# Altium footprint library CONN_HDR_2.00MM_ST_SMD.PcbLib: 20 footprints (part 1 of 2)
Each footprint in its own frame and in the unit in brackets; x right, y up, seen from the top. Pads: shape width x height; smd on the part's side, far side on the other; paste and mask are expansions set on the pad; w line width, h text height; cw(c..) or ccw(c..) is an arc to the next point about the centre after c.
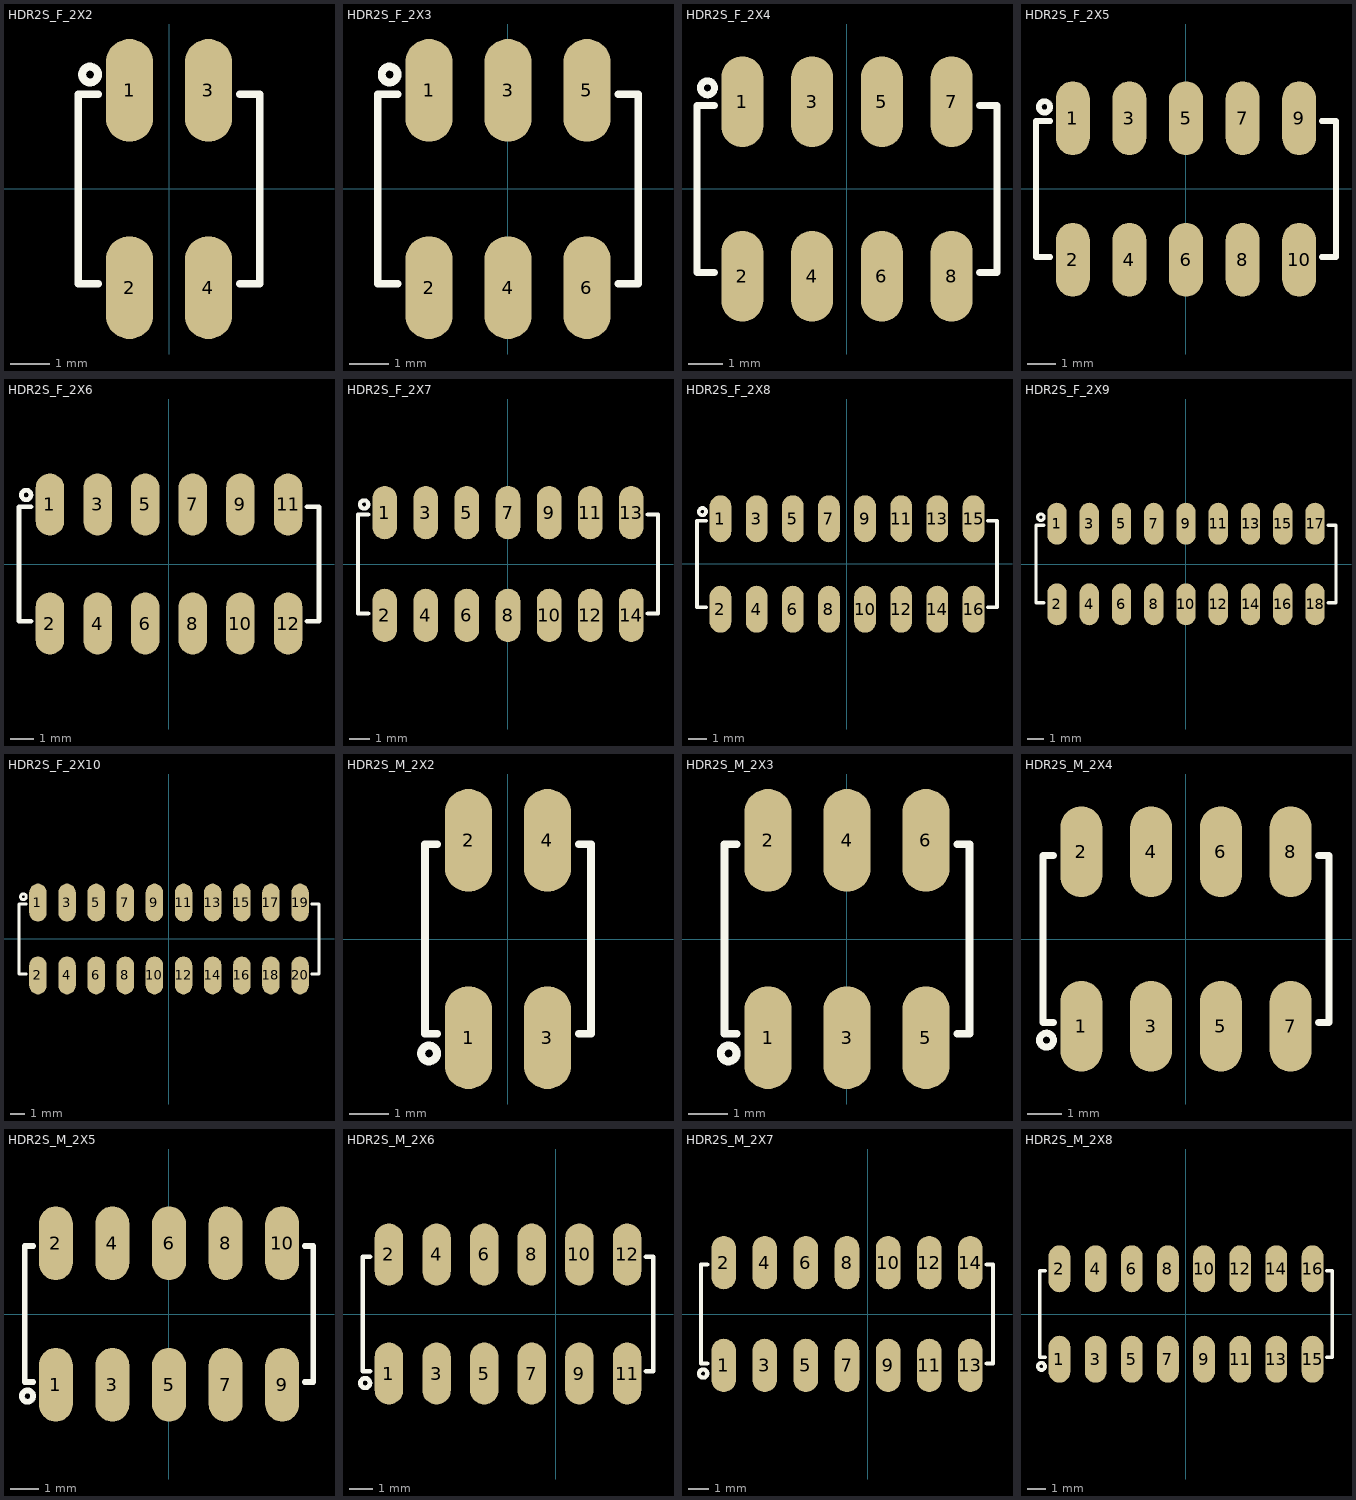
[diagram p0: the footprints below, top view; thin cyan lines are the x and y axes]

## HDR2S_F_2X2 [mm] "Header 2.0mm pitch"
pads (4):
  oval 1.2x2.6 smd mask+0.1: 1(-1,2.5) 2(-1,-2.5) 3(1,2.5) 4(1,-2.5)
Top Overlay:
  circle w0.2: c-2,2.9 r0.2
  lines w0.2: -1.8,-2.4 -2.3,-2.4 -2.3,2.4 -1.8,2.4 ; 1.8,-2.4 2.3,-2.4 2.3,2.4 1.8,2.4
3D body "female_header_a-bl200-dg-g04mp1.stp": height 4.6, standoff 0, extent -2.2,-3.35 2.2,3.351

## HDR2S_F_2X3 [mm] "Header 2.0mm pitch"
pads (6):
  oval 1.2x2.6 smd mask+0.1: 1(-2,2.5) 2(-2,-2.5) 3(0,2.5) 4(0,-2.5) 5(2,2.5) 6(2,-2.5)
Top Overlay:
  circle w0.2: c-3,2.9 r0.2
  lines w0.2: -2.8,-2.4 -3.3,-2.4 -3.3,2.4 -2.8,2.4 ; 2.8,-2.4 3.3,-2.4 3.3,2.4 2.8,2.4
3D body "female_header_a-bl200-dg-g06mp1.stp": height 4.6, standoff 0, extent -3.2,-3.35 3.2,3.351

## HDR2S_F_2X4 [mm] "Header 2.0mm pitch"
pads (8):
  oval 1.2x2.6 smd mask+0.1: 1(-3,2.5) 2(-3,-2.5) 3(-1,2.5) 4(-1,-2.5) 5(1,2.5) 6(1,-2.5) 7(3,2.5) 8(3,-2.5)
Top Overlay:
  circle w0.2: c-4,2.9 r0.2
  lines w0.2: -3.8,-2.4 -4.3,-2.4 -4.3,2.4 -3.8,2.4 ; 3.8,-2.4 4.3,-2.4 4.3,2.4 3.8,2.4
3D body "female_header_a-bl200-dg-g08mp1.stp": height 4.6, standoff 0, extent -4.2,-3.35 4.2,3.351

## HDR2S_F_2X5 [mm] "Header 2.0mm pitch"
height 1.2
pads (10):
  oval 1.2x2.6 smd mask+0.1: 1(-4,2.5) 2(-4,-2.5) 3(-2,2.5) 4(-2,-2.5) 5(0,2.5) 6(0,-2.5) 7(2,2.5) 8(2,-2.5) 9(4,2.5) 10(4,-2.5)
Top Overlay:
  circle w0.2: c-5,2.9 r0.2
  lines w0.2: -4.8,-2.4 -5.3,-2.4 -5.3,2.4 -4.8,2.4 ; 4.8,-2.4 5.3,-2.4 5.3,2.4 4.8,2.4
3D body "female_header_a-bl200-dg-g04mp1.stp": height 4.6, standoff 0, extent -5.2,-3.35 -0.8,3.351
3D body "female_header_a-bl200-dg-g06mp1.stp": height 4.6, standoff 0, extent -1.2,-3.35 5.2,3.351

## HDR2S_F_2X6 [mm] "Header 2.0mm pitch"
height 1.2
pads (12):
  oval 1.2x2.6 smd mask+0.1: 1(-5,2.5) 2(-5,-2.5) 3(-3,2.5) 4(-3,-2.5) 5(-1,2.5) 6(-1,-2.5) 7(1,2.5) 8(1,-2.5) 9(3,2.5) 10(3,-2.5) 11(5,2.5) 12(5,-2.5)
Top Overlay:
  circle w0.2: c-6,2.9 r0.2
  lines w0.2: -5.8,-2.4 -6.3,-2.4 -6.3,2.4 -5.8,2.4 ; 5.8,-2.4 6.3,-2.4 6.3,2.4 5.8,2.4
3D body "female_header_a-bl200-dg-g08mp1.stp": height 4.6, standoff 0, extent -6.2,-3.35 2.2,3.351
3D body "female_header_a-bl200-dg-g04mp1.stp": height 4.6, standoff 0, extent 1.8,-3.35 6.2,3.351

## HDR2S_F_2X7 [mm] "Header 2.0mm pitch"
height 1.2
pads (14):
  oval 1.2x2.6 smd mask+0.1: 1(-6,2.5) 2(-6,-2.5) 3(-4,2.5) 4(-4,-2.5) 5(-2,2.5) 6(-2,-2.5) 7(0,2.5) 8(0,-2.5) 9(2,2.5) 10(2,-2.5) 11(4,2.5) 12(4,-2.5) 13(6,2.5) 14(6,-2.5)
Top Overlay:
  circle w0.2: c-7,2.9 r0.2
  lines w0.2: -6.8,-2.4 -7.3,-2.4 -7.3,2.4 -6.8,2.4 ; 6.8,-2.4 7.3,-2.4 7.3,2.4 6.8,2.4
3D body "female_header_a-bl200-dg-g06mp1.stp": height 4.6, standoff 0, extent 0.8,-3.35 7.2,3.351
3D body "female_header_a-bl200-dg-g08mp1.stp": height 4.6, standoff 0, extent -7.2,-3.35 1.2,3.351

## HDR2S_F_2X8 [mm] "Header 2.0mm pitch"
height 1.2
pads (16):
  oval 1.2x2.6 smd mask+0.1: 1(-7,2.5) 2(-7,-2.5) 3(-5,2.5) 4(-5,-2.5) 5(-3,2.5) 6(-3,-2.5) 7(-1,2.5) 8(-1,-2.5) 9(1,2.5) 10(1,-2.5) 11(3,2.5) 12(3,-2.5) 13(5,2.5) 14(5,-2.5) 15(7,2.5) 16(7,-2.5)
Top Overlay:
  circle w0.2: c-8,2.9 r0.2
  lines w0.2: -7.8,-2.4 -8.3,-2.4 -8.3,2.4 -7.8,2.4 ; 7.8,-2.4 8.3,-2.4 8.3,2.4 7.8,2.4
3D body "female_header_a-bl200-dg-g16mp1.stp": height 4.6, standoff 0, extent -8.2,-3.35 8.2,3.351

## HDR2S_F_2X9 [mm] "Header 2.0mm pitch"
height 1.2
pads (18):
  oval 1.2x2.6 smd mask+0.1: 1(-8,2.5) 2(-8,-2.5) 3(-6,2.5) 4(-6,-2.5) 5(-4,2.5) 6(-4,-2.5) 7(-2,2.5) 8(-2,-2.5) 9(0,2.5) 10(0,-2.5) 11(2,2.5) 12(2,-2.5) 13(4,2.5) 14(4,-2.5) 15(6,2.5) 16(6,-2.5) 17(8,2.5) 18(8,-2.5)
Top Overlay:
  circle w0.2: c-9,2.9 r0.2
  lines w0.2: -8.8,-2.4 -9.3,-2.4 -9.3,2.4 -8.8,2.4 ; 8.8,-2.4 9.3,-2.4 9.3,2.4 8.8,2.4
3D body "female_header_a-bl200-dg-g08mp1.stp": height 4.6, standoff 0, extent -9.2,-3.35 -0.8,3.351
3D body "female_header_a-bl200-dg-g04mp1.stp": height 4.6, standoff 0, extent -1.2,-3.35 3.2,3.351
3D body "female_header_a-bl200-dg-g06mp1.stp": height 4.6, standoff 0, extent 2.8,-3.35 9.2,3.351

## HDR2S_F_2X10 [mm] "Header 2.0mm pitch"
height 1.2
pads (20):
  oval 1.2x2.6 smd mask+0.1: 1(-9,2.5) 2(-9,-2.5) 3(-7,2.5) 4(-7,-2.5) 5(-5,2.5) 6(-5,-2.5) 7(-3,2.5) 8(-3,-2.5) 9(-1,2.5) 10(-1,-2.5) 11(1,2.5) 12(1,-2.5) 13(3,2.5) 14(3,-2.5) 15(5,2.5) 16(5,-2.5) 17(7,2.5) 18(7,-2.5) 19(9,2.5) 20(9,-2.5)
Top Overlay:
  circle w0.2: c-10,2.9 r0.2
  lines w0.2: -9.8,-2.4 -10.3,-2.4 -10.3,2.4 -9.8,2.4 ; 9.8,-2.4 10.3,-2.4 10.3,2.4 9.8,2.4
3D body "female_header_a-bl200-dg-g20mp1.stp": height 4.6, standoff 0, extent -10.2,-3.35 10.2,3.351

## HDR2S_M_2X2 [mm] "Header 2.0mm pitch"
pads (4):
  oval 1.2x2.6 smd mask+0.1: 1(-1,-2.5) 2(-1,2.5) 3(1,-2.5) 4(1,2.5)
Top Overlay:
  circle w0.2: c-2,-2.9 r0.2
  lines w0.2: -1.8,-2.4 -2.1,-2.4 -2.1,2.4 -1.8,2.4 ; 1.8,-2.4 2.1,-2.4 2.1,2.4 1.8,2.4
3D body "pin_header_a-sl200-dg-g04mp1.stp": height 6.5, standoff 0, extent -1.975,-3.25 1.975,3.25

## HDR2S_M_2X3 [mm] "Header 2.0mm pitch"
pads (6):
  oval 1.2x2.6 smd mask+0.1: 1(-2,-2.5) 2(-2,2.5) 3(0,-2.5) 4(0,2.5) 5(2,-2.5) 6(2,2.5)
Top Overlay:
  circle w0.2: c-3,-2.9 r0.2
  lines w0.2: -2.8,-2.4 -3.1,-2.4 -3.1,2.4 -2.8,2.4 ; 2.8,-2.4 3.1,-2.4 3.1,2.4 2.8,2.4
3D body "pin_header_a-sl200-dg-g06mp1.stp": height 6.5, standoff 0, extent -2.975,-3.25 2.975,3.25

## HDR2S_M_2X4 [mm] "Header 2.0mm pitch"
pads (8):
  oval 1.2x2.6 smd mask+0.1: 1(-3,-2.5) 2(-3,2.5) 3(-1,-2.5) 4(-1,2.5) 5(1,-2.5) 6(1,2.5) 7(3,-2.5) 8(3,2.5)
Top Overlay:
  circle w0.2: c-4,-2.9 r0.2
  lines w0.2: -3.8,-2.4 -4.1,-2.4 -4.1,2.4 -3.8,2.4 ; 3.8,-2.4 4.1,-2.4 4.1,2.4 3.8,2.4
3D body "pin_header_a-sl200-dg-g08mp1.stp": height 6.5, standoff 0, extent -3.975,-3.25 3.975,3.25

## HDR2S_M_2X5 [mm] "Header 2.0mm pitch"
height 1.2
pads (10):
  oval 1.2x2.6 smd mask+0.1: 1(-4,-2.5) 2(-4,2.5) 3(-2,-2.5) 4(-2,2.5) 5(0,-2.5) 6(0,2.5) 7(2,-2.5) 8(2,2.5) 9(4,-2.5) 10(4,2.5)
Top Overlay:
  circle w0.2: c-5,-2.9 r0.2
  lines w0.2: -4.8,-2.4 -5.1,-2.4 -5.1,2.4 -4.8,2.4 ; 4.8,-2.4 5.1,-2.4 5.1,2.4 4.8,2.4
3D body "pin_header_a-sl200-dg-g06mp1.stp": height 6.5, standoff 0, extent -0.975,-3.25 4.975,3.25
3D body "pin_header_a-sl200-dg-g04mp1.stp": height 6.5, standoff 0, extent -4.975,-3.25 -1.025,3.25

## HDR2S_M_2X6 [mm] "Header 2.0mm pitch"
height 1.2
pads (12):
  oval 1.2x2.6 smd mask+0.1: 1(-7,-2.5) 2(-7,2.5) 3(-5,-2.5) 4(-5,2.5) 5(-3,-2.5) 6(-3,2.5) 7(-1,-2.5) 8(-1,2.5) 9(1,-2.5) 10(1,2.5) 11(3,-2.5) 12(3,2.5)
Top Overlay:
  circle w0.2: c-8,-2.9 r0.2
  lines w0.2: -7.8,-2.4 -8.1,-2.4 -8.1,2.4 -7.8,2.4 ; 3.8,-2.4 4.1,-2.4 4.1,2.4 3.8,2.4
3D body "pin_header_a-sl200-dg-g04mp1.stp": height 6.5, standoff 0, extent 0.025,-3.25 3.975,3.25
3D body "pin_header_a-sl200-dg-g08mp1.stp": height 6.5, standoff 0, extent -7.975,-3.25 -0.025,3.25

## HDR2S_M_2X7 [mm] "Header 2.0mm pitch"
height 1.2
pads (14):
  oval 1.2x2.6 smd mask+0.1: 1(-7,-2.5) 2(-7,2.5) 3(-5,-2.5) 4(-5,2.5) 5(-3,-2.5) 6(-3,2.5) 7(-1,-2.5) 8(-1,2.5) 9(1,-2.5) 10(1,2.5) 11(3,-2.5) 12(3,2.5) 13(5,-2.5) 14(5,2.5)
Top Overlay:
  circle w0.2: c-8,-2.9 r0.2
  lines w0.2: -7.8,-2.4 -8.1,-2.4 -8.1,2.4 -7.8,2.4 ; 5.8,-2.4 6.1,-2.4 6.1,2.4 5.8,2.4
3D body "pin_header_a-sl200-dg-g08mp1.stp": height 6.5, standoff 0, extent -7.975,-3.25 -0.025,3.25
3D body "pin_header_a-sl200-dg-g06mp1.stp": height 6.5, standoff 0, extent 0.025,-3.25 5.975,3.25

## HDR2S_M_2X8 [mm] "Header 2.0mm pitch"
height 1.2
pads (16):
  oval 1.2x2.6 smd mask+0.1: 1(-7,-2.5) 2(-7,2.5) 3(-5,-2.5) 4(-5,2.5) 5(-3,-2.5) 6(-3,2.5) 7(-1,-2.5) 8(-1,2.5) 9(1,-2.5) 10(1,2.5) 11(3,-2.5) 12(3,2.5) 13(5,-2.5) 14(5,2.5) 15(7,-2.5) 16(7,2.5)
Top Overlay:
  circle w0.2: c-8,-2.9 r0.2
  lines w0.2: -7.8,-2.4 -8.1,-2.4 -8.1,2.4 -7.8,2.4 ; 7.8,-2.4 8.1,-2.4 8.1,2.4 7.8,2.4
3D body "pin_header_a-sl200-dg-g16mp1.stp": height 6.5, standoff 0, extent -7.975,-3.25 7.975,3.25